# EAGLE library part L298P (library IC)
IC BRIDGE DRIVER PAR 20POWERSO Manufacturer's datasheet <http://www.st.com/content/ccc/resource/technical/document/datasheet/82/cc/3f/39/0a/29/4d/f0/CD00000240.pdf/files/CD00000240.pdf/jcr:content/translations/en.CD00000240.pdf>
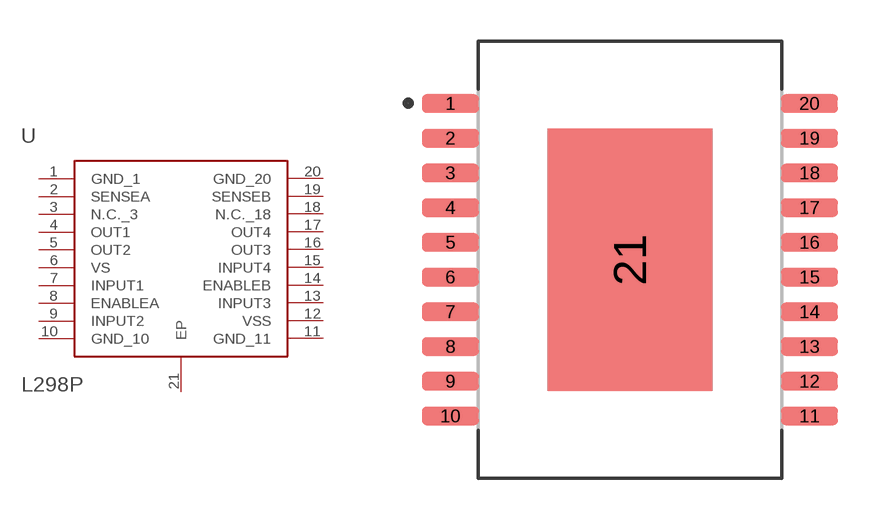
[diagram p40: symbol with the pads of 20-SOIC; footprint 20-SOIC]

Designator prefix U

## L298P (CREATED_BY: PCBLayout.com; DIGIKEY_PART_NUMBER: 497-1396-5-ND; MANUFACTURER: STMicroelectronics; MPN: L298P; PACKAGE: 20-SOIC)  [20-SOIC]
1  GND_1  pwr
2  SENSEA  pwr
3  N.C._3  pas
4  OUT1  out
5  OUT2  out
6  VS  pwr
7  INPUT1  in
8  ENABLEA  in
9  INPUT2  in
10  GND_10  pwr
11  GND_11  pwr
12  VSS  pwr
13  INPUT3  in
14  ENABLEB  in
15  INPUT4  in
16  OUT3  out
17  OUT4  out
18  N.C._18  pas
19  SENSEB  pwr
20  GND_20  pwr
21  EP  pwr

## Footprint 20-SOIC (pad centres in mm)
Small Outline IC (SOIC with Tab), 1.27 mm pitch; 20 pin, 15.90 mm L X 11.00 mm W X 3.60 mm H body PCB Libraries Packages
smd 2.09 x 0.69: 1 -6.56,5.715; 2 -6.56,4.445; 3 -6.56,3.175; 4 -6.56,1.905; 5 -6.56,0.635; 6 -6.56,-0.635; 7 -6.56,-1.905; 8 -6.56,-3.175; 9 -6.56,-4.445; 10 -6.56,-5.715; 11 6.56,-5.715; 12 6.56,-4.445; 13 6.56,-3.175; 14 6.56,-1.905; 15 6.56,-0.635; 16 6.56,0.635; 17 6.56,1.905; 18 6.56,3.175; 19 6.56,4.445; 20 6.56,5.715
smd 6 x 9.6: 21 0,0